# EAGLE library part NC7WZ14 (library fairchild-semi)
Fairchild Semi: Dual Schmitt trigger inverter in SC-70-6 package
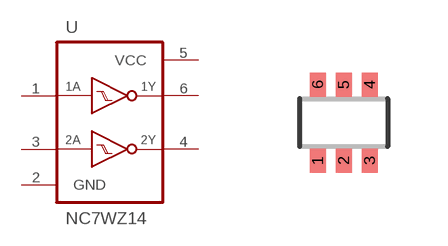
[diagram p3: symbol with the pads of SC70-6; footprint SC70-6]

Designator prefix U

## NC7WZ14DCK (DIGIKEY: NC7WZ14P6XCT-ND; MFR: Fairchild Semi; MPN: NC7WZ14P6X; P1I: o)  [SC70-6]
1  1A  in
2  GND  pwr
3  2A  in
4  2Y  out
5  VCC  pwr
6  1Y  out

## Footprint SC70-6 (pad centres in mm)
SC70-6 0.65 mm pitch
smd 0.4 x 0.6: 1 -0.65,-0.95; 2 0,-0.95; 3 0.65,-0.95; 4 0.65,0.95; 5 0,0.95; 6 -0.65,0.95